# EAGLE library part HEADER-BDM8 (library vieng)
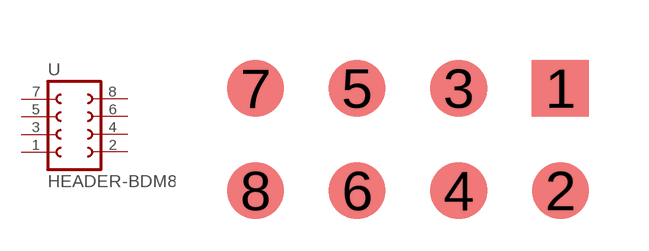
[diagram p5: symbol with the pads of HEADER-BDM8; footprint HEADER-BDM8]

Designator prefix -

## HEADER-BDM8  [HEADER-BDM8]
1  1  pas
2  2  pas
3  3  pas
4  4  pas
5  5  pas
6  6  pas
7  7  pas
8  8  pas

## Footprint HEADER-BDM8 (pad centres in mm)
smd 1.422 x 1.422: 1 3.81,1.295; 2 3.81,-1.27; 3 1.27,1.295; 4 1.27,-1.27; 5 -1.27,1.295; 6 -1.27,-1.27; 7 -3.81,1.295; 8 -3.81,-1.27